# EAGLE library part NHD-C0220BIZ_2X20CHARS (library df4iah_lcd)
NHD-C0220BIZ 2 x 20 character dot matrix LCD with I2C
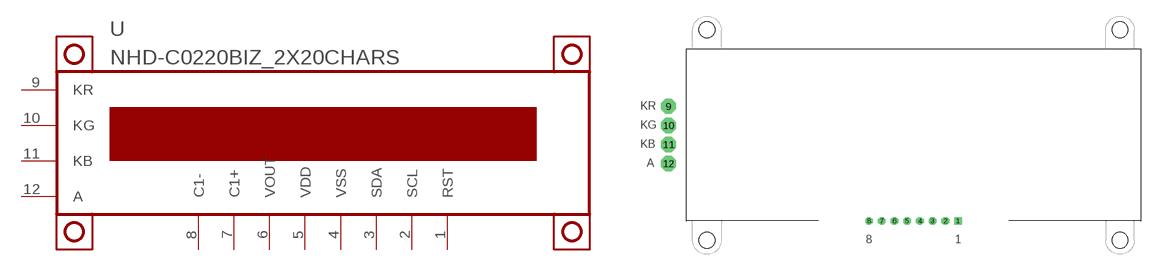
[diagram p0: symbol with the pads of NHD-C0220BIZ_2X20CHARS; footprint NHD-C0220BIZ_2X20CHARS]

Designator prefix U

## NHD-C0220BIZ_2X20CHARS  [NHD-C0220BIZ_2X20CHARS]
1  RST  in
2  SCL  in
3  SDA
4  VSS  pwr
5  VDD  pwr
6  VOUT  pas
7  C1+  pas
8  C1-  pas
9  KR  pas
10  KG  pas
11  KB  pas
12  A  pas

## Footprint NHD-C0220BIZ_2X20CHARS (pad centres in mm)
NHD-C0220BIZ 2 x 20 character dot matrix LCD with I2C
drill 0.7 square: 1 7,-14
drill 0.7 octagon: 2 5,-14; 3 3,-14; 4 1,-14; 5 -1,-14; 6 -3,-14; 7 -5,-14; 8 -7,-14
drill 1.6 pad 2 octagon: 9 -38.55,4.05; 10 -38.55,1.05; 11 -38.55,-1.95; 12 -38.55,-4.95
hole 2.5 at -32.5,16.1
hole 2.5 at 32.5,16.1
hole 2.5 at 32.5,-17
hole 2.5 at -32.5,-17